# Altium schematic symbol library SI5332AD11697-GM1.SchLib: 2 symbols
Pins are listed as number, name and electrical type; pins without a type are passive.

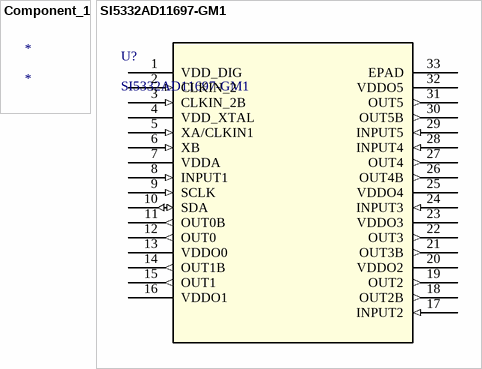
[diagram p0: symbols Component_1 to SI5332AD11697-GM1]

## Component_1
designator *

## SI5332AD11697-GM1
designator U?
No Description Available; Mfr_Name: Skyworks; Copyright: Copyright (C) 2023 Ultra Librarian. All rights reserved.; Manufacturer_Part_Number: SI5332AD11697-GM1; RefDes: RefDes; Type: DEV
footprint QFN32_SI5332A_SKY
pins: 1 VDD_DIG (power), 2 CLKIN_2 (in), 3 CLKIN_2B (in), 4 VDD_XTAL (power), 5 XA/CLKIN1 (in), 6 XB (in), 7 VDDA (power), 8 INPUT1 (in), 9 SCLK (in), 10 SDA (io), 11 OUT0B (out), 12 OUT0 (out), 13 VDDO0 (power), 14 OUT1B (out), 15 OUT1 (out), 16 VDDO1 (power), 17 INPUT2 (in), 18 OUT2B (out), 19 OUT2 (out), 20 VDDO2 (power), 21 OUT3B (out), 22 OUT3 (out), 23 VDDO3 (power), 24 INPUT3 (in), 25 VDDO4 (power), 26 OUT4B (out), 27 OUT4 (out), 28 INPUT4 (in), 29 INPUT5 (in), 30 OUT5B (out), 31 OUT5 (out), 32 VDDO5 (power), 33 EPAD (power)